# Altium footprint library dg.PcbLib: 57 footprints (part 4 of 4)
Each footprint in its own frame and in the unit in brackets; x right, y up, seen from the top. Pads: shape width x height; smd on the part's side, far side on the other; paste and mask are expansions set on the pad; w line width, h text height; cw(c..) or ccw(c..) is an arc to the next point about the centre after c.
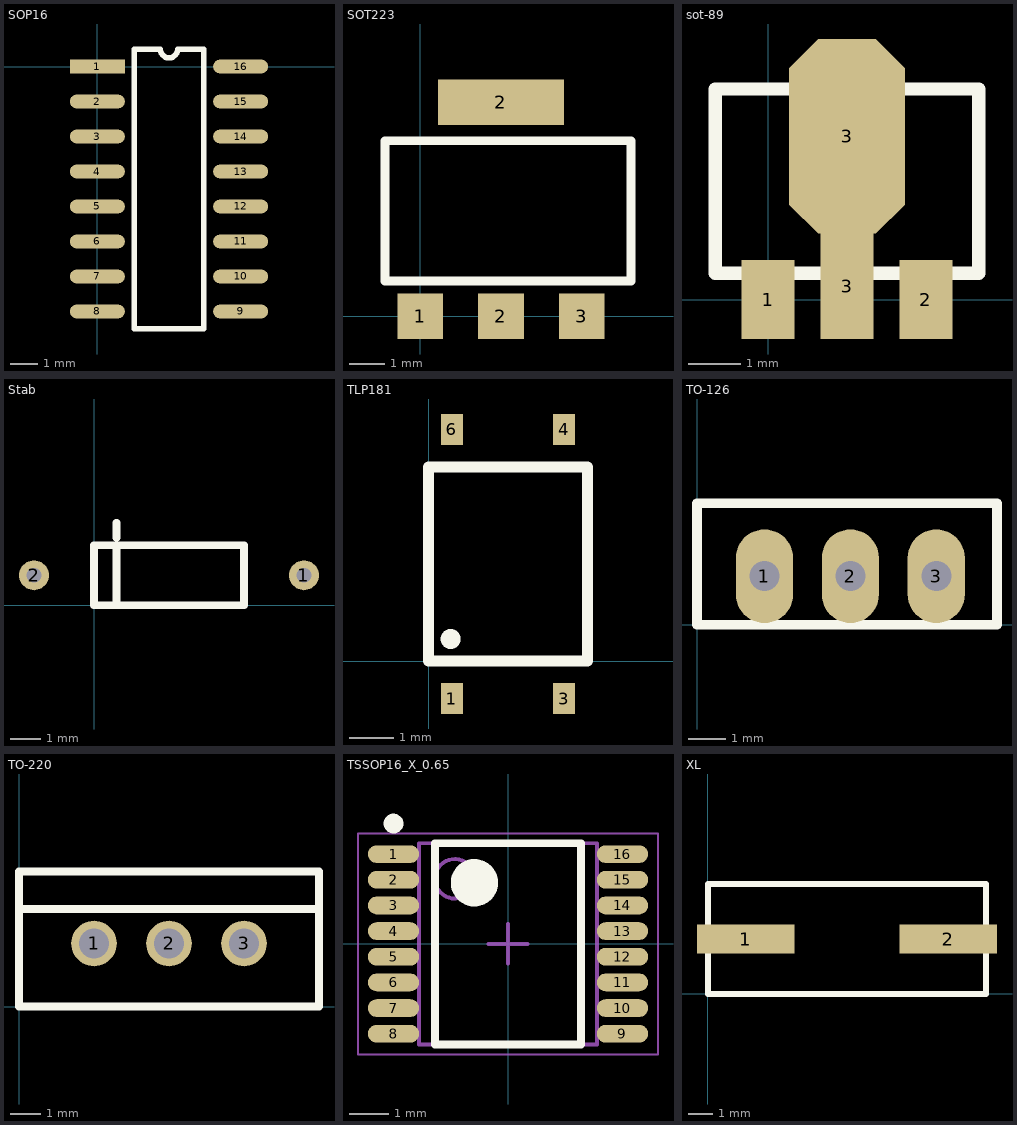
[diagram p3: the footprints below, top view; thin cyan lines are the x and y axes]

## SOP16 [mm]
pads (16):
  rect 2x0.5 smd: 1(0,0)
  oval 2x0.5 smd: 2(0,-1.27) 3(0,-2.54) 4(0,-3.81) 5(0,-5.08) 6(0,-6.35) 7(0,-7.62) 8(0,-8.89) 9(5.2,-8.89) 10(5.2,-7.62) 11(5.2,-6.35) 12(5.2,-5.08) 13(5.2,-3.81) 14(5.2,-2.54) 15(5.2,-1.27) 16(5.2,0)
Top Overlay:
  lines w0.2: 1.335,-9.525 3.865,-9.525 3.865,0.635 2.917,0.635 cw(c2.6,0.635) 2.282,0.635 1.335,0.635 1.335,-9.525

## SOT223 [mm]
height 0.5
pads (4):
  rect 1.3x1.3 smd: 1(0,0) 2(2.3,0) 3(4.6,0)
  rect 3.6x1.3 smd: 2(2.3,6.1)
Top Overlay:
  lines w0.254: -1,1 6,1 6,5 -1,5 -1,1

## sot-89 [mm]
height 5
pads (4):
  rect 1x1.5 smd: 1(0,0) 2(3,0)
  rect 1x2 smd: 3(1.5,0.25)
  oct 2.2x3.7 smd: 3(1.5,3.1)
Top Overlay:
  lines w0.254: -1,0.5 -1,4 4,4 4,0.5 -1,0.5

## Stab [mm]
height 3
pads (2):
  round 1 hole 0.5: 1(7,1) 2(-2,1)
Top Overlay:
  lines w0.254: 0.75,0 0.75,2 ; 0.75,2.25 0.75,2.75 ; 0,0 5,0 5,2 0,2 0,0

## TLP181 [mm]
height 2.5
pads (4):
  rect 0.5x0.7 smd: 1(0.53,-0.85) 3(3.07,-0.85) 4(3.07,5.25) 6(0.53,5.25)
Top Overlay:
  circle w0.254: c0.5,0.5 r0.1
  lines w0.254: 0,0 0,4.4 3.6,4.4 3.6,0 0,0

## TO-126 [mm]
height 6
pads (3):
  oval 1.524x2.5 hole 0.8: 1(1.8,1.3) 2(4.09,1.3) 3(6.38,1.3)
Top Overlay:
  lines w0.254: 8,3.2 8,0 0,0 0,3.25 8,3.25

## TO-220 [mm]
height 19.05
pads (3):
  round 1.524 hole 1: 1(2.5,2.1) 2(5,2.1) 3(7.5,2.1)
Top Overlay:
  lines w0.254: 0,3.25 10,3.25 ; 0,0 10,0 10,4.5 0,4.5 0,0
3D body "User Library-TO-220-4.STEP": height 20.06, standoff -8.74, extent -0.1,0.3 10.1,4.8

## TSSOP16_X_0.65 [mm]
height 1.2
pads (16):
  oval 1.3x0.45 smd: 1(-2.9,2.275) 2(-2.9,1.625) 3(-2.9,0.975) 4(-2.9,0.325) 5(-2.9,-0.325) 6(-2.9,-0.975) 7(-2.9,-1.625) 8(-2.9,-2.275) 9(2.9,-2.275) 10(2.9,-1.625) 11(2.9,-0.975) 12(2.9,-0.325) 13(2.9,0.325) 14(2.9,0.975) 15(2.9,1.625) 16(2.9,2.275)
Top Overlay:
  circle w0.25: c-2.9,3.05 r0.125
  circle w0.6: c-0.85,1.55 r0.3
  lines w0.2: -1.85,-2.55 -1.85,2.55 1.85,2.55 1.85,-2.55 -1.85,-2.55
Mechanical 13:
  circle w0.1: c-1.35,1.65 r0.5
  lines w0.1: -2.25,-2.55 -2.25,2.55 2.25,2.55 2.25,-2.55 -2.25,-2.55
Mechanical 15:
  lines w0.05: -3.8,-2.8 -3.8,2.8 3.8,2.8 3.8,-2.8 -3.8,-2.8
  lines w0.1: -0.5,0 0.5,0 ; 0,-0.5 0,0.5
3D body: height 1.2, standoff 0.2, extent -2.25,-2.55 2.25,2.55

## XL [mm]
height 5
pads (2):
  rect 4x1.2 smd: 1(1.55,2.25) 2(9.85,2.25)
Top Overlay:
  lines w0.254: 0,0 11.4,0 11.4,4.5 0,4.5 0,0